# EAGLE library part STM32F40X (library pel_stm32)
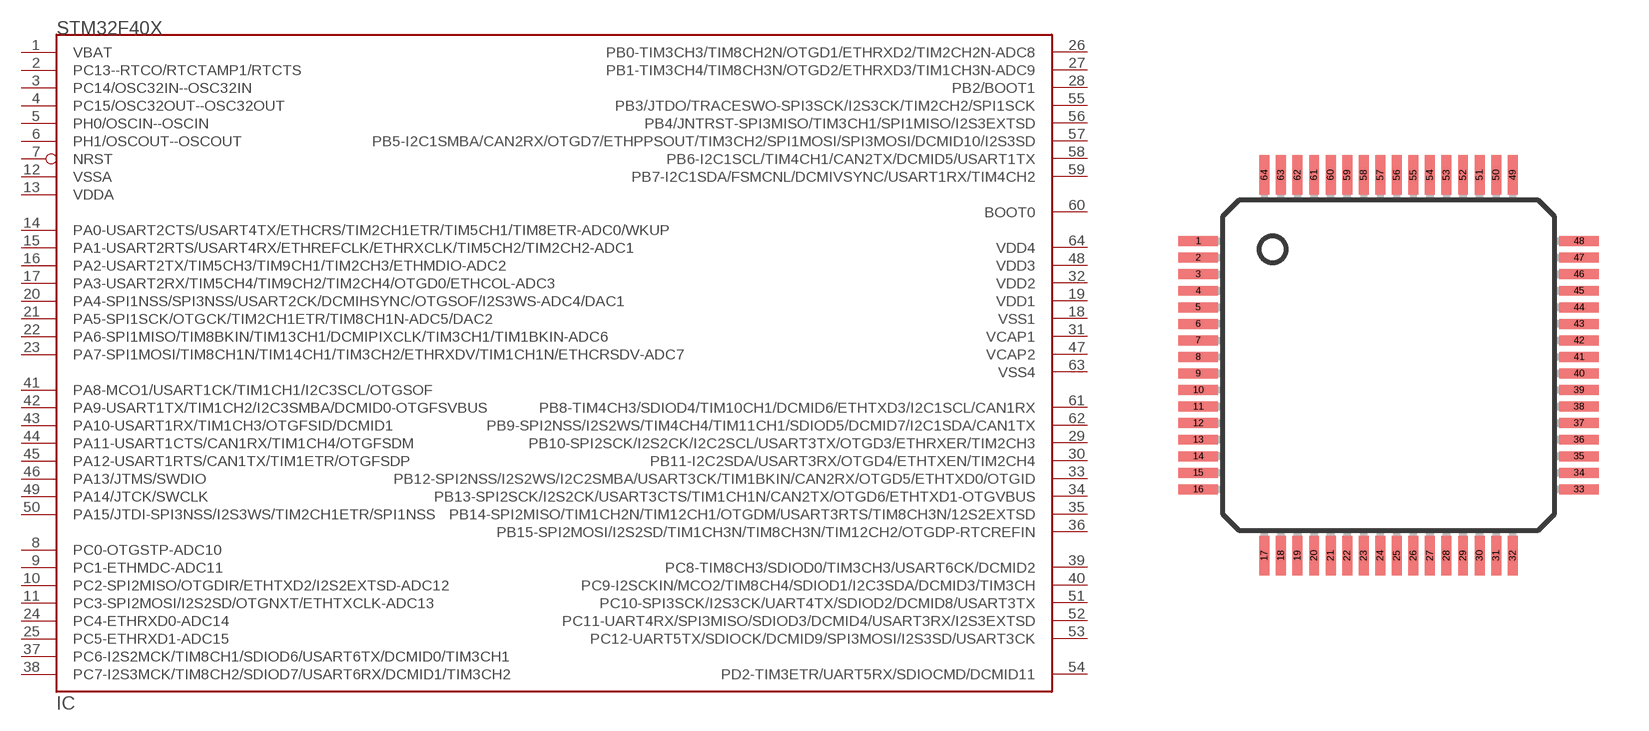
[diagram p9: symbol with the pads of LQFP64; footprint LQFP64]

Designator prefix IC

## STM32F40X  [LQFP64]
1  VBAT  sup
2  PC13--RTCO/RTCTAMP1/RTCTS
3  PC14/OSC32IN--OSC32IN
4  PC15/OSC32OUT--OSC32OUT
5  PH0/OSCIN--OSCIN  in
6  PH1/OSCOUT--OSCOUT  out
7  NRST
8  PC0-OTGSTP-ADC10
9  PC1-ETHMDC-ADC11
10  PC2-SPI2MISO/OTGDIR/ETHTXD2/I2S2EXTSD-ADC12
11  PC3-SPI2MOSI/I2S2SD/OTGNXT/ETHTXCLK-ADC13
12  VSSA  sup
13  VDDA  sup
14  PA0-USART2CTS/USART4TX/ETHCRS/TIM2CH1ETR/TIM5CH1/TIM8ETR-ADC0/WKUP
15  PA1-USART2RTS/USART4RX/ETHREFCLK/ETHRXCLK/TIM5CH2/TIM2CH2-ADC1
16  PA2-USART2TX/TIM5CH3/TIM9CH1/TIM2CH3/ETHMDIO-ADC2
17  PA3-USART2RX/TIM5CH4/TIM9CH2/TIM2CH4/OTGD0/ETHCOL-ADC3
18  VSS1  sup
19  VDD1  sup
20  PA4-SPI1NSS/SPI3NSS/USART2CK/DCMIHSYNC/OTGSOF/I2S3WS-ADC4/DAC1
21  PA5-SPI1SCK/OTGCK/TIM2CH1ETR/TIM8CH1N-ADC5/DAC2
22  PA6-SPI1MISO/TIM8BKIN/TIM13CH1/DCMIPIXCLK/TIM3CH1/TIM1BKIN-ADC6
23  PA7-SPI1MOSI/TIM8CH1N/TIM14CH1/TIM3CH2/ETHRXDV/TIM1CH1N/ETHCRSDV-ADC7
24  PC4-ETHRXD0-ADC14
25  PC5-ETHRXD1-ADC15
26  PB0-TIM3CH3/TIM8CH2N/OTGD1/ETHRXD2/TIM2CH2N-ADC8
27  PB1-TIM3CH4/TIM8CH3N/OTGD2/ETHRXD3/TIM1CH3N-ADC9
28  PB2/BOOT1
29  PB10-SPI2SCK/I2S2CK/I2C2SCL/USART3TX/OTGD3/ETHRXER/TIM2CH3
30  PB11-I2C2SDA/USART3RX/OTGD4/ETHTXEN/TIM2CH4
31  VCAP1  sup
32  VDD2  sup
33  PB12-SPI2NSS/I2S2WS/I2C2SMBA/USART3CK/TIM1BKIN/CAN2RX/OTGD5/ETHTXD0/OTGID
34  PB13-SPI2SCK/I2S2CK/USART3CTS/TIM1CH1N/CAN2TX/OTGD6/ETHTXD1-OTGVBUS
35  PB14-SPI2MISO/TIM1CH2N/TIM12CH1/OTGDM/USART3RTS/TIM8CH3N/12S2EXTSD
36  PB15-SPI2MOSI/I2S2SD/TIM1CH3N/TIM8CH3N/TIM12CH2/OTGDP-RTCREFIN
37  PC6-I2S2MCK/TIM8CH1/SDIOD6/USART6TX/DCMID0/TIM3CH1
38  PC7-I2S3MCK/TIM8CH2/SDIOD7/USART6RX/DCMID1/TIM3CH2
39  PC8-TIM8CH3/SDIOD0/TIM3CH3/USART6CK/DCMID2
40  PC9-I2SCKIN/MCO2/TIM8CH4/SDIOD1/I2C3SDA/DCMID3/TIM3CH
41  PA8-MCO1/USART1CK/TIM1CH1/I2C3SCL/OTGSOF
42  PA9-USART1TX/TIM1CH2/I2C3SMBA/DCMID0-OTGFSVBUS
43  PA10-USART1RX/TIM1CH3/OTGFSID/DCMID1
44  PA11-USART1CTS/CAN1RX/TIM1CH4/OTGFSDM
45  PA12-USART1RTS/CAN1TX/TIM1ETR/OTGFSDP
46  PA13/JTMS/SWDIO
47  VCAP2  sup
48  VDD3  sup
49  PA14/JTCK/SWCLK
50  PA15/JTDI-SPI3NSS/I2S3WS/TIM2CH1ETR/SPI1NSS
51  PC10-SPI3SCK/I2S3CK/UART4TX/SDIOD2/DCMID8/USART3TX
52  PC11-UART4RX/SPI3MISO/SDIOD3/DCMID4/USART3RX/I2S3EXTSD
53  PC12-UART5TX/SDIOCK/DCMID9/SPI3MOSI/I2S3SD/USART3CK
54  PD2-TIM3ETR/UART5RX/SDIOCMD/DCMID11
55  PB3/JTDO/TRACESWO-SPI3SCK/I2S3CK/TIM2CH2/SPI1SCK
56  PB4/JNTRST-SPI3MISO/TIM3CH1/SPI1MISO/I2S3EXTSD
57  PB5-I2C1SMBA/CAN2RX/OTGD7/ETHPPSOUT/TIM3CH2/SPI1MOSI/SPI3MOSI/DCMID10/I2S3SD
58  PB6-I2C1SCL/TIM4CH1/CAN2TX/DCMID5/USART1TX
59  PB7-I2C1SDA/FSMCNL/DCMIVSYNC/USART1RX/TIM4CH2
60  BOOT0  in
61  PB8-TIM4CH3/SDIOD4/TIM10CH1/DCMID6/ETHTXD3/I2C1SCL/CAN1RX
62  PB9-SPI2NSS/I2S2WS/TIM4CH4/TIM11CH1/SDIOD5/DCMID7/I2C1SDA/CAN1TX
63  VSS4
64  VDD4

## Footprint LQFP64 (pad centres in mm)
Based on STM PCB landpattern recomendation
smd 1.2 x 0.3: 1 -5.75,3.75; 2 -5.75,3.25; 3 -5.75,2.75; 4 -5.75,2.25; 5 -5.75,1.75; 6 -5.75,1.25; 7 -5.75,0.75; 8 -5.75,0.25; 9 -5.75,-0.25; 10 -5.75,-0.75; 11 -5.75,-1.25; 12 -5.75,-1.75; 13 -5.75,-2.25; 14 -5.75,-2.75; 15 -5.75,-3.25; 16 -5.75,-3.75; 33 5.75,-3.75; 34 5.75,-3.25; 35 5.75,-2.75; 36 5.75,-2.25; 37 5.75,-1.75; 38 5.75,-1.25; 39 5.75,-0.75; 40 5.75,-0.25; 41 5.75,0.25; 42 5.75,0.75; 43 5.75,1.25; 44 5.75,1.75; 45 5.75,2.25; 46 5.75,2.75; 47 5.75,3.25; 48 5.75,3.75
smd 0.3 x 1.2: 17 -3.75,-5.75; 18 -3.25,-5.75; 19 -2.75,-5.75; 20 -2.25,-5.75; 21 -1.75,-5.75; 22 -1.25,-5.75; 23 -0.75,-5.75; 24 -0.25,-5.75; 25 0.25,-5.75; 26 0.75,-5.75; 27 1.25,-5.75; 28 1.75,-5.75; 29 2.25,-5.75; 30 2.75,-5.75; 31 3.25,-5.75; 32 3.75,-5.75; 49 3.75,5.75; 50 3.25,5.75; 51 2.75,5.75; 52 2.25,5.75; 53 1.75,5.75; 54 1.25,5.75; 55 0.75,5.75; 56 0.25,5.75; 57 -0.25,5.75; 58 -0.75,5.75; 59 -1.25,5.75; 60 -1.75,5.75; 61 -2.25,5.75; 62 -2.75,5.75; 63 -3.25,5.75; 64 -3.75,5.75